# Altium schematic symbol library LM5013QDDARQ1.SchLib: 1 symbol
Pins are listed as number, name and electrical type; pins without a type are passive.

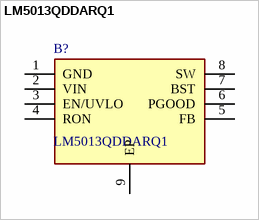
[diagram p0: symbol LM5013QDDARQ1]

## LM5013QDDARQ1
designator B?
Switching Voltage Regulators 6-V to 100-V input, 3.5-A non-synchronous buck DC/DC converter with ultra-low quiescent current (IQ); Manufacturer_Name: Texas Instruments; Geometry.Height: 1.7mm; Mouser Part Number: 595-LM5013QDDARQ1; Mouser Price/Stock: https://www.mouser.co.uk/ProductDetail/Texas-Instruments/LM5013QDDARQ1?qs=t7xnP681wgX%2F7Fftd5oLmw%3D%3D; Manufacturer_Part_Number: LM5013QDDARQ1; Datasheet Link: https://www.ti.com/lit/ds/symlink/lm5013-q1.pdf?ts=1650857966126&ref_url=https%253A%252F%252Fwww.ti.com%252Fproduct%252FLM5013-Q1%253FkeyMatch%253DLM5013QDDARQ1%2526tisearch%253Dsearch-everything%2526usecase%253DOPN
footprint SOIC127P600X170-9N
pins: 1 GND, 2 VIN, 3 EN/UVLO, 4 RON, 5 FB, 6 PGOOD, 7 BST, 8 SW, 9 EP